# EAGLE library part MSP430FR5959IRHAR (library MSP430FR)
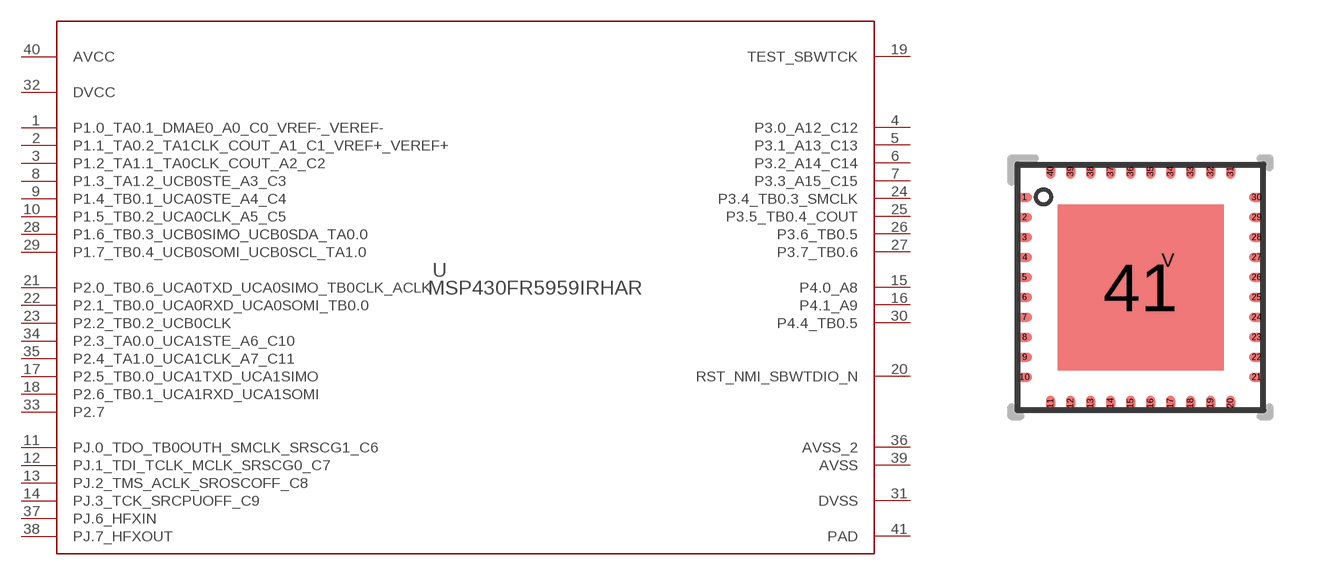
[diagram p1: symbol with the pads of RHA0040B; footprint RHA0040B]

Designator prefix U

## MSP430FR5959IRHAR (ALTERNATEPARTNUMBER: MSP430FR5959IRHAT; APPLICATION_BUILDNUMBER: *; COMPTYPE: IC; MANUFACTURER: Texas Instruments; MOUNTTYPE: SMT; PACKAGEREFERENCE: RHA0040B; PARTNUMBER: MSP430FR5959IRHAR; PIN_COUNT: 41; REFDES: RefDes; ROHS: Y; TYPE: TYPE; VALUE: Value)  [RHA0040B]
1  P1.0_TA0.1_DMAE0_A0_C0_VREF-_VEREF-
2  P1.1_TA0.2_TA1CLK_COUT_A1_C1_VREF+_VEREF+
3  P1.2_TA1.1_TA0CLK_COUT_A2_C2
4  P3.0_A12_C12
5  P3.1_A13_C13
6  P3.2_A14_C14
7  P3.3_A15_C15
8  P1.3_TA1.2_UCB0STE_A3_C3
9  P1.4_TB0.1_UCA0STE_A4_C4
10  P1.5_TB0.2_UCA0CLK_A5_C5
11  PJ.0_TDO_TB0OUTH_SMCLK_SRSCG1_C6
12  PJ.1_TDI_TCLK_MCLK_SRSCG0_C7
13  PJ.2_TMS_ACLK_SROSCOFF_C8
14  PJ.3_TCK_SRCPUOFF_C9
15  P4.0_A8
16  P4.1_A9
17  P2.5_TB0.0_UCA1TXD_UCA1SIMO
18  P2.6_TB0.1_UCA1RXD_UCA1SOMI
19  TEST_SBWTCK  in
20  RST_NMI_SBWTDIO_N
21  P2.0_TB0.6_UCA0TXD_UCA0SIMO_TB0CLK_ACLK
22  P2.1_TB0.0_UCA0RXD_UCA0SOMI_TB0.0
23  P2.2_TB0.2_UCB0CLK
24  P3.4_TB0.3_SMCLK
25  P3.5_TB0.4_COUT
26  P3.6_TB0.5
27  P3.7_TB0.6
28  P1.6_TB0.3_UCB0SIMO_UCB0SDA_TA0.0
29  P1.7_TB0.4_UCB0SOMI_UCB0SCL_TA1.0
30  P4.4_TB0.5
31  DVSS  pwr
32  DVCC  pwr
33  P2.7
34  P2.3_TA0.0_UCA1STE_A6_C10
35  P2.4_TA1.0_UCA1CLK_A7_C11
36  AVSS_2  pwr
37  PJ.6_HFXIN
38  PJ.7_HFXOUT
39  AVSS  pwr
40  AVCC  pwr
41  PAD  pwr

## Footprint RHA0040B (pad centres in mm)
smd 0.37 x 0.23: 1 -2.9,2.25; 2 -2.9,1.75; 3 -2.9,1.25; 4 -2.9,0.75; 5 -2.9,0.25; 6 -2.9,-0.25; 7 -2.9,-0.75; 8 -2.9,-1.25; 9 -2.9,-1.75; 10 -2.9,-2.25; 21 2.9,-2.25; 22 2.9,-1.75; 23 2.9,-1.25; 24 2.9,-0.75; 25 2.9,-0.25; 26 2.9,0.25; 27 2.9,0.75; 28 2.9,1.25; 29 2.9,1.75; 30 2.9,2.25
smd 0.23 x 0.37: 11 -2.25,-2.9; 12 -1.75,-2.9; 13 -1.25,-2.9; 14 -0.75,-2.9; 15 -0.25,-2.9; 16 0.25,-2.9; 17 0.75,-2.9; 18 1.25,-2.9; 19 1.75,-2.9; 20 2.25,-2.9; 31 2.25,2.9; 32 1.75,2.9; 33 1.25,2.9; 34 0.75,2.9; 35 0.25,2.9; 36 -0.25,2.9; 37 -0.75,2.9; 38 -1.25,2.9; 39 -1.75,2.9; 40 -2.25,2.9
smd 4.15 x 4.15: 41 0,0
smd 0.5 x 0.5: V 0.685,0.685